# Altium footprint library SimpleLib.PcbLib: 18 footprints (part 1 of 2)
Each footprint in its own frame and in the unit in brackets; x right, y up, seen from the top. Pads: shape width x height; smd on the part's side, far side on the other; paste and mask are expansions set on the pad; w line width, h text height; cw(c..) or ccw(c..) is an arc to the next point about the centre after c.
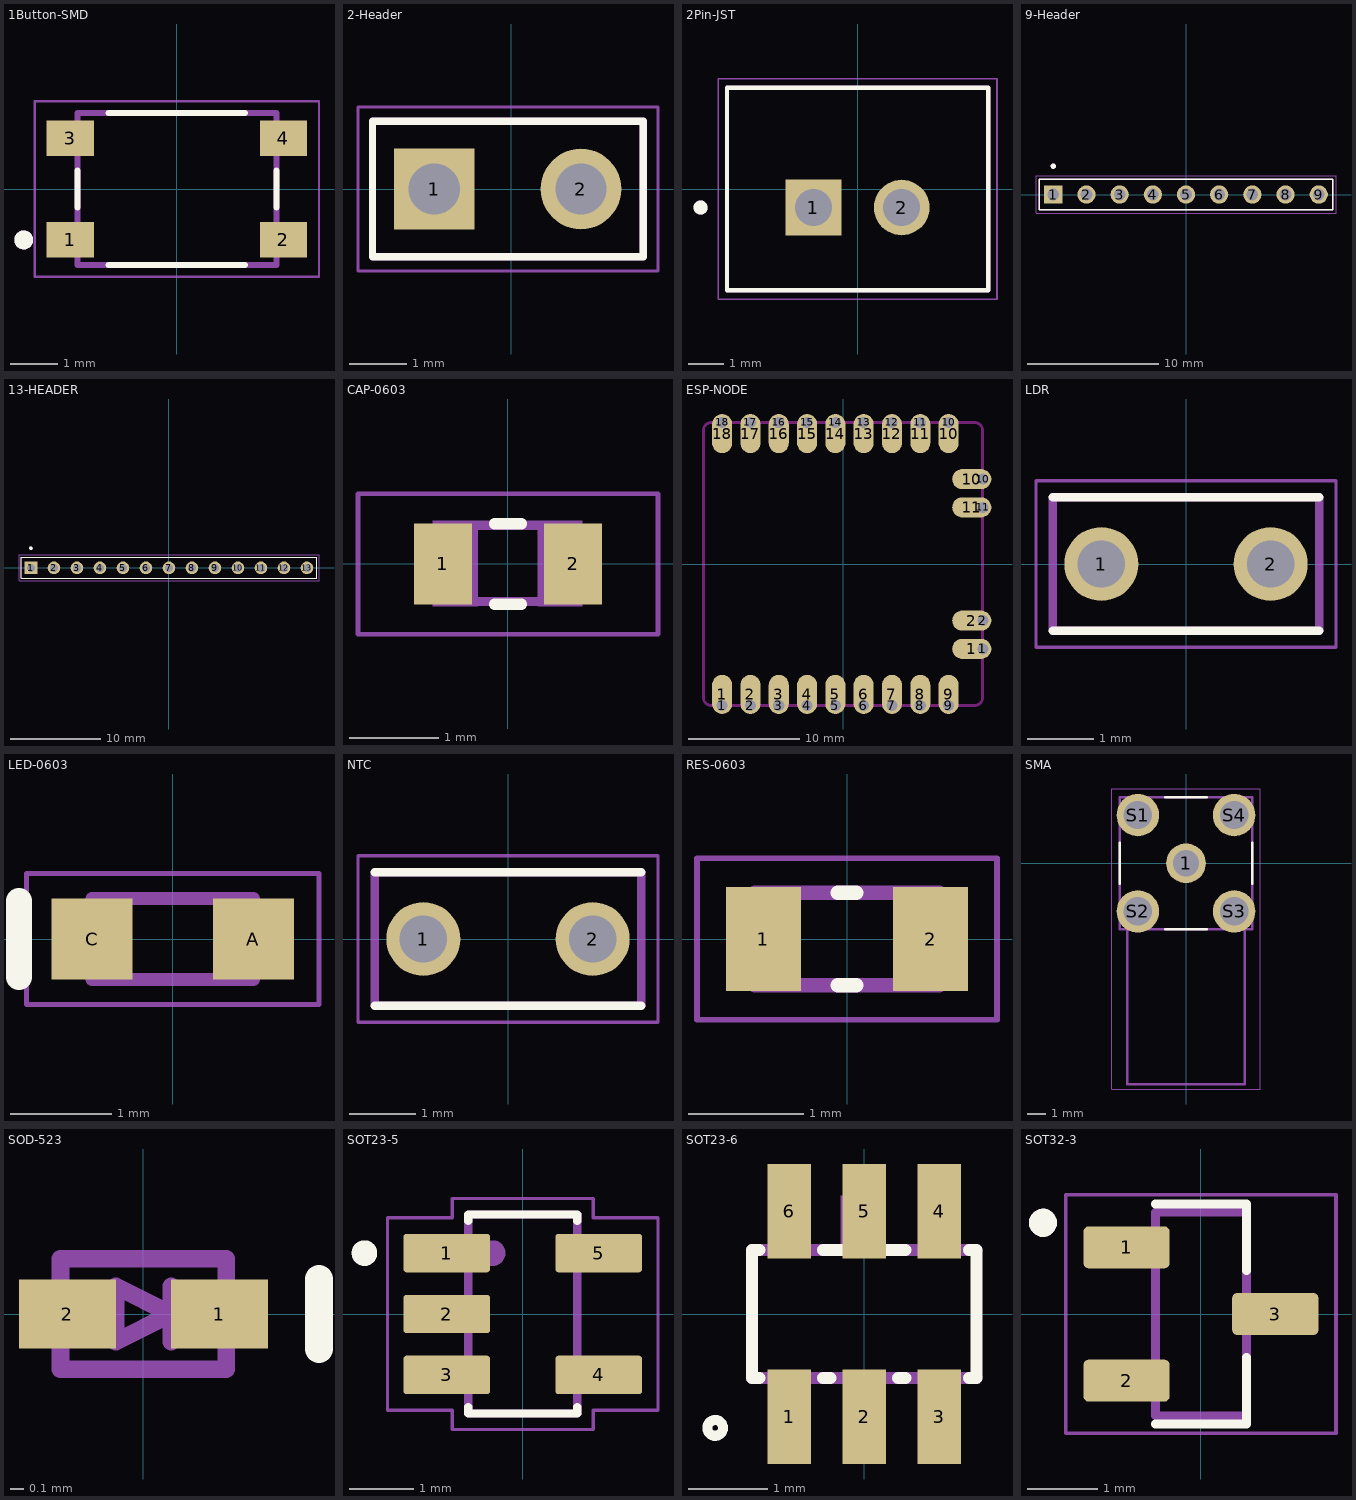
[diagram p0: the footprints below, top view; thin cyan lines are the x and y axes]

## 1Button-SMD [mm]
pads (4):
  rect 1x0.75 smd: 1(-2.25,-1.075) 2(2.25,-1.075) 3(-2.25,1.075) 4(2.25,1.075)
Top Overlay:
  circle w0.2: c-3.23,-1.075 r0.1
  lines w0.127: -2.1,-0.386 -2.1,0.386 ; -1.436,-1.6 1.436,-1.6 ; -1.436,1.6 1.436,1.6 ; 2.1,-0.386 2.1,0.386
Mechanical 13:
  circle w0.2: c-3.23,-1.075 r0.1
  lines w0.127: -2.1,-1.6 2.1,-1.6 2.1,1.6 -2.1,1.6 -2.1,-1.6
Mechanical 15:
  lines w0.05: -3,-1.85 3,-1.85 3,1.85 -3,1.85 -3,-1.85
3D body "step_temp.STEP": height 2.5, standoff -0.01, extent -2.249,-1.6 2.249,1.6

## 2-Header [mm]
pads (2):
  rect 1.398x1.398 hole 0.89: 1(-1.333,0)
  round 1.398 hole 0.89: 2(1.206,0)
Top Overlay:
  lines w0.127: -2.404,-1.17 2.286,-1.17 2.286,1.17 -2.404,1.17 -2.404,-1.17
Mechanical 13:
  lines w0.127: -2.404,-1.17 2.286,-1.17 2.286,1.17 -2.404,1.17 -2.404,-1.17
Mechanical 15:
  lines w0.05: -2.653,-1.42 2.54,-1.42 2.54,1.42 -2.653,1.42 -2.653,-1.42

## 2Pin-JST [mm]
pads (2):
  rect 1.575x1.575 / inner round 1.575 / far side rect 1.575x1.575 hole 1.05: 1(-1.25,-0.525)
  round 1.575 hole 1.05: 2(1.25,-0.525)
Top Overlay:
  circle w0.2: c-4.45,-0.525 r0.1
  lines w0.127: -3.7,-2.875 -3.7,2.875 3.7,2.875 3.7,-2.875 -3.7,-2.875
Mechanical 13:
  circle w0.2: c-4.45,-0.525 r0.1
  lines w0.127: -3.7,-2.875 -3.7,2.875 3.7,2.875 3.7,-2.875 -3.7,-2.875
Mechanical 15:
  lines w0.05: -3.95,-3.125 3.95,-3.125 3.95,3.125 -3.95,3.125 -3.95,-3.125
3D body "step_temp.STEP": height 7, standoff -3.4, extent -3.7,-2.875 3.7,2.875

## 9-Header [mm]
pads (9):
  rect 1.398x1.398 hole 0.89: 1(-10.16,0)
  round 1.398 hole 0.89: 2(-7.62,0) 3(-5.08,0) 4(-2.54,0) 5(0,0) 6(2.54,0) 7(5.08,0) 8(7.62,0) 9(10.16,0)
Top Overlay:
  circle w0.2: c-10.16,2.17 r0.1
  lines w0.127: -11.23,-1.17 11.23,-1.17 11.23,1.17 -11.23,1.17 -11.23,-1.17
Mechanical 13:
  circle w0.2: c-10.16,2.17 r0.1
  lines w0.127: -11.23,-1.17 11.23,-1.17 11.23,1.17 -11.23,1.17 -11.23,-1.17
Mechanical 15:
  lines w0.05: -11.48,-1.42 11.48,-1.42 11.48,1.42 -11.48,1.42 -11.48,-1.42
3D body "5-2267062-9.stp": height 3.26, standoff -10.28, extent -11.227,-1.168 11.227,1.168

## 13-HEADER [mm]
pads (13):
  rect 1.398x1.398 hole 0.89: 1(-15.24,0)
  round 1.398 hole 0.89: 2(-12.7,0) 3(-10.16,0) 4(-7.62,0) 5(-5.08,0) 6(-2.54,0) 7(0,0) 8(2.54,0) 9(5.08,0) 10(7.62,0) 11(10.16,0) 12(12.7,0) 13(15.24,0)
Top Overlay:
  circle w0.2: c-15.24,2.17 r0.1
  lines w0.127: 16.31,-1.17 16.31,1.17 ; 16.319,-1.17 -16.31,-1.17 -16.31,1.17 16.319,1.17
Mechanical 13:
  circle w0.2: c-15.24,2.17 r0.1
  lines w0.127: -16.31,-1.17 -16.31,1.17 16.319,1.17 16.319,-1.17 -16.31,-1.17
Mechanical 15:
  lines w0.05: -16.56,-1.42 -16.56,1.42 16.573,1.42 16.573,-1.42 -16.56,-1.42
3D body "13-pin.stp": height 3.27, standoff -8.27, extent -16.51,-1.27 16.51,1.27

## CAP-0603 [mm]
pads (2):
  rect 0.65x0.9 smd: 1(-0.725,0) 2(0.725,0)
Top Overlay:
  lines w0.127: -0.15,-0.45 0.15,-0.45 ; -0.15,0.45 0.15,0.45
Mechanical 13:
  region: 0.83,-0.471 0.331,-0.471 0.331,0.48 0.83,0.48
  region: -0.338,-0.47 -0.839,-0.47 -0.839,0.48 -0.338,0.48
  lines w0.102: -0.356,-0.419 0.356,-0.419 ; -0.356,0.432 0.356,0.432
Mechanical 15:
  lines w0.051: -1.673,-0.783 -1.673,0.783 1.673,0.783 1.673,-0.783 -1.673,-0.783
3D body "capacitor0603.STEP": height 0.8, standoff -0.01, extent -0.8,-0.445 0.8,0.456

## ESP-NODE [mm]
pads (44):
  round 1.524 hole 1: 1(-10.858,-12.7) 1(12.537,-7.62) 2(-8.318,-12.7) 2(12.537,-5.08) 3(-5.778,-12.7) 4(-3.238,-12.7) 5(-0.698,-12.7) 6(1.842,-12.7) 7(4.382,-12.7) 8(6.922,-12.7) 9(9.462,-12.7) 10(9.461,12.7) 10(12.537,7.62) 11(6.921,12.7) 11(12.537,5.08) 12(4.381,12.7) 13(1.842,12.7) 14(-0.698,12.7) 15(-3.238,12.7) 16(-5.779,12.7) 17(-8.319,12.7) 18(-10.858,12.7)
  oval 1.8x3.5 smd: 1(-10.858,-11.7) 2(-8.318,-11.7) 3(-5.778,-11.7) 4(-3.238,-11.7) 5(-0.698,-11.7) 6(1.842,-11.7) 7(4.382,-11.7) 8(6.922,-11.7) 9(9.462,-11.7) 10(9.461,11.7) 11(6.921,11.7) 12(4.381,11.7) 13(1.842,11.7) 14(-0.698,11.7) 15(-3.238,11.7) 16(-5.779,11.7) 17(-8.319,11.7) 18(-10.858,11.7)
  oval 3.5x1.8 smd: 1(11.537,-7.62) 2(11.537,-5.08) 10(11.537,7.62) 11(11.537,5.08)
Keep-Out Layer:
  lines w0.254: 11.792,-12.7 11.242,-12.7 -11.838,-12.7 cw(c-11.838,-12) -12.538,-12 -12.538,12 cw(c-11.838,12) -11.838,12.7 11.812,12.7 cw(c11.812,12) 12.512,12 12.512,-12 cw(c11.812,-12) 11.812,-12.7
3D body "esp-node.step": height 8.54, standoff -3, extent -19.757,-12.736 12.592,12.664

## LDR [mm]
pads (2):
  round 1.11 hole 0.71: 1(-1.27,0) 2(1.27,0)
Top Overlay:
  lines w0.127: -2,-1 2,-1 ; -2,1 2,1
Mechanical 13:
  lines w0.127: -2,-1 -2,1 2,1 2,-1 -2,-1
Mechanical 15:
  lines w0.05: -2.25,-1.25 2.25,-1.25 2.25,1.25 -2.25,1.25 -2.25,-1.25
3D body "LDR-GL5516.step": height 2.04, standoff -31.96, extent -2.512,-1.968 2.512,2.056

## LED-0603 [mm]
pads (2):
  rect 0.8x0.8 smd: A(0.8,0) C(-0.8,0)
Top Overlay:
  lines w0.254: -1.524,-0.381 -1.524,0.381
Mechanical 13:
  lines w0.127: -0.8,-0.4 -0.8,0.4 0.8,0.4 0.8,-0.4 -0.8,-0.4
Mechanical 15:
  lines w0.05: -1.45,-0.65 1.45,-0.65 1.45,0.65 -1.45,0.65 -1.45,-0.65
3D body "step_temp.STEP": height 0.8, standoff 0, extent -0.8,-0.4 0.8,0.4

## NTC [mm]
pads (2):
  round 1.11 hole 0.71: 1(-1.27,0) 2(1.27,0)
Top Overlay:
  lines w0.127: -2,-1 2,-1 ; -2,1 2,1
Mechanical 13:
  lines w0.127: -2,-1 -2,1 2,1 2,-1 -2,-1
Mechanical 15:
  lines w0.05: -2.25,-1.25 2.25,-1.25 2.25,1.25 -2.25,1.25 -2.25,-1.25
3D body "NXRT15XV103FA5B030.STEP": height 5, standoff -26, extent -2,-1 2,1

## RES-0603 [mm]
pads (2):
  rect 0.65x0.9 smd: 1(-0.725,0) 2(0.725,0)
Top Overlay:
  lines w0.127: -0.08,-0.4 0.08,-0.4 ; -0.08,0.4 0.08,0.4
Mechanical 13:
  lines w0.127: -0.8,-0.4 -0.8,0.4 0.8,0.4 0.8,-0.4 -0.8,-0.4
Mechanical 15:
  lines w0.05: -1.3,-0.7 -1.3,0.7 1.3,0.7 1.3,-0.7 -1.3,-0.7
3D body "resistor.STEP": height 0.45, standoff 0, extent -0.8,-0.4 0.8,0.4

## SMA [mm]
pads (5):
  round 2.1 hole 1.4: 1(0,0)
  round 2.25 hole 1.5: S1(-2.55,2.55) S2(-2.55,-2.55) S3(2.55,-2.55) S4(2.55,2.55)
Top Overlay:
  lines w0.127: -3.5,-1.1 -3.5,1.1 ; -1.1,-3.5 1.1,-3.5 ; -1.1,3.5 1.1,3.5 ; 3.5,-1.1 3.5,1.1
Mechanical 13:
  lines w0.127: -3.1,-3.5 3.1,-3.5 ; -3.1,-3.5 -3.5,-3.5 -3.5,3.5 3.5,3.5 3.5,-3.5 3.1,-3.5 ; -3.1,-3.5 -3.1,-11.7 3.1,-11.7 3.1,-3.5
Mechanical 15:
  lines w0.05: -3.93,-11.95 3.93,-11.95 3.93,3.93 -3.93,3.93 -3.93,-11.95
3D body "step_temp.STEP": height 10, standoff -3.9, extent -3.5,-11.644 3.5,3.556

## SOD-523 [mm]
pads (2):
  rect 0.7x0.5 smd: 1(0.55,0) 2(-0.55,0)
Top Overlay:
  lines w0.203: 1.27,-0.254 1.27,0.254
Mechanical 13:
  region: 0.8,-0.15 0.6,-0.15 0.6,0.15 0.8,0.15
  region: -0.6,-0.15 -0.8,-0.15 -0.8,0.15 -0.6,0.15
  lines w0.127: 0.2,-0.2 0.2,0 ; 0.2,0.2 0.2,0 ; 0.2,0 -0.2,0.2 -0.2,-0.2 0.2,0 ; -0.6,-0.4 0.6,-0.4 0.6,0.4 -0.6,0.4 -0.6,-0.4
3D body "SOD-523.STEP": height 0.65, standoff 0, extent -0.8,-0.381 0.8,0.419

## SOT23-5 [mm]
pads (5):
  rrect15% 1.35x0.6 smd: 1(-1.185,0.95) 2(-1.185,0) 3(-1.185,-0.95) 4(1.185,-0.95) 5(1.185,0.95)
Top Overlay:
  circle w0.2: c-2.469,0.95 r0.1
  lines w0.127: -0.85,-1.45 -0.85,-1.55 0.85,-1.55 0.85,-1.45 ; -0.85,1.45 -0.85,1.55 0.85,1.55 0.85,1.45
Mechanical 13:
  circle w0.2: c-0.469,0.95 r0.1
  lines w0.127: -0.85,-1.55 0.85,-1.55 0.85,1.55 -0.85,1.55 -0.85,-1.55
Mechanical 15:
  lines w0.05: -2.11,-1.5 -2.11,1.5 -1.1,1.5 -1.1,1.8 1.1,1.8 1.1,1.5 2.11,1.5 2.11,-1.5 1.1,-1.5 1.1,-1.8 -1.1,-1.8 -1.1,-1.5 -2.11,-1.5
3D body "step_temp.STEP": height 1.4, standoff 0, extent -1.4,-1.5 1.4,1.5

## SOT23-6 [mm]
pads (6):
  rect 0.55x1.2 smd: 1(-0.95,-1.3) 2(0,-1.3) 3(0.95,-1.3) 4(0.95,1.3) 5(0,1.3) 6(-0.95,1.3)
Top Overlay:
  circle w0.127: c-1.889,-1.443 r0.1
  lines w0.152: -1.328,-0.81 -1.422,-0.81 -1.422,0.81 -1.328,0.81 ; -0.522,-0.81 -0.428,-0.81 ; -0.522,0.81 0.522,0.81 ; 0.428,-0.81 0.522,-0.81 ; 1.328,-0.81 1.422,-0.81 1.422,0.81 1.328,0.81
Mechanical 13:
  region: 0.2,0.85 -0.3,0.85 -0.3,1.5 0.2,1.5
  region: -0.7,0.85 -1.2,0.85 -1.2,1.5 -0.7,1.5
  region: 1.2,0.85 0.7,0.85 0.7,1.5 1.2,1.5
  region: 1.2,-1.5 0.7,-1.5 0.7,-0.85 1.2,-0.85
  region: 0.25,-1.5 -0.25,-1.5 -0.25,-0.85 0.25,-0.85
  region: -0.7,-1.5 -1.2,-1.5 -1.2,-0.85 -0.7,-0.85
  lines w0.152: -1.422,-0.81 1.422,-0.81 ; -1.422,0.81 1.422,0.81
3D body "step_temp.STEP": height 1.45, standoff 0, extent -1.45,-1.4 1.45,1.4

## SOT32-3 [mm]
pads (3):
  rrect25% 1.23x0.6 smd: 1(-1.06,0.95) 2(-1.06,-0.95) 3(1.06,0)
Top Overlay:
  circle w0.2: c-2.25,1.3 r0.1
  lines w0.127: -0.65,-1.57 0.65,-1.57 0.65,-0.62 ; -0.65,1.57 0.65,1.57 0.65,0.62
Mechanical 13:
  circle w0.2: c-2.25,1.3 r0.1
  lines w0.127: -0.65,-1.45 -0.65,1.45 0.65,1.45 0.65,-1.45 -0.65,-1.45
Mechanical 15:
  lines w0.05: -1.925,-1.7 1.925,-1.7 1.925,1.7 -1.925,1.7 -1.925,-1.7
3D body "BSS138.STEP": height 1.15, standoff 0, extent -1.264,-1.45 1.137,1.45